# Altium footprint library Speakers_Buzzers.PcbLib: 3 footprints
Each footprint in its own frame and in the unit in brackets; x right, y up, seen from the top. Pads: shape width x height; smd on the part's side, far side on the other; paste and mask are expansions set on the pad; w line width, h text height; cw(c..) or ccw(c..) is an arc to the next point about the centre after c.
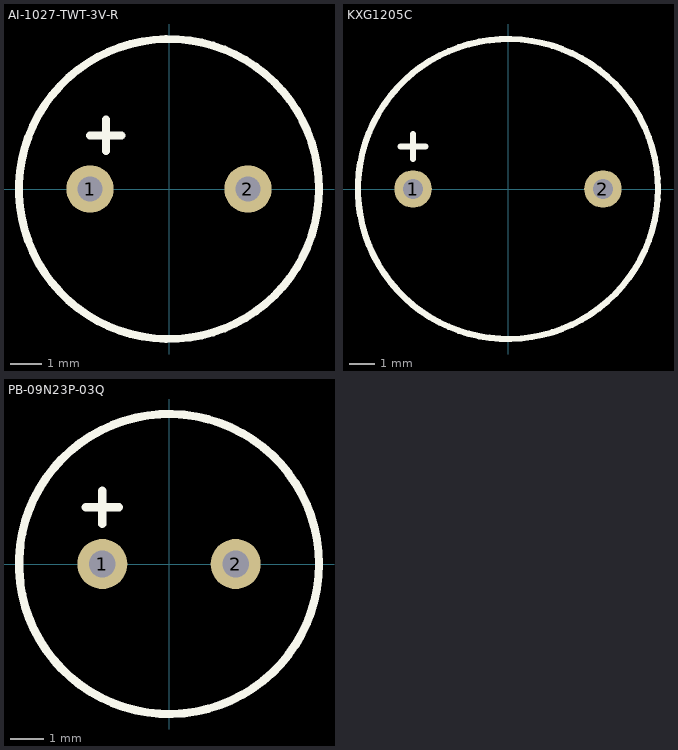
[diagram p0: the footprints below, top view; thin cyan lines are the x and y axes]

## AI-1027-TWT-3V-R [mm] "Audio Indicators & Alerts 3VDC 30MA 80DBA 2700HZ"
height 5
pads (2):
  round 1.5 hole 0.8: 1(-2.5,0) 2(2.5,0)
Top Overlay:
  circle w0.25: c0,0 r4.75
  lines w0.254: -2.5,1.7 -2,1.7 ; -2,1.2 -2,2.2 ; -1.5,1.7 -2,1.7 ; -2,1.7 -2,1.7
3D body: height 5, standoff -1, extent -4.75,-4.75 4.75,4.75

## KXG1205C [mm] "Audio Indicators & Alerts KXG1205C"
height 9.5
pads (2):
  round 1.5 hole 0.8: 1(-3.8,0) 2(3.8,0)
Top Overlay:
  circle w0.25: c0,0 r6
  lines w0.254: -4.3,1.7 -3.8,1.7 ; -3.8,1.2 -3.8,2.2 ; -3.3,1.7 -3.8,1.7 ; -3.8,1.7 -3.8,1.7
3D body: height 9.5, standoff -1, extent -6,-6 6,6

## PB-09N23P-03Q [mm] "Audio Indicators & Alerts CONSTANT, 2300HZ 1.2-2.5VDC, 9X5.5MM"
height 5.5
pads (2):
  round 1.5 hole 0.8: 1(-2,0) 2(2,0)
Top Overlay:
  circle w0.25: c0,0 r4.5
  lines w0.254: -2.5,1.7 -2,1.7 ; -2,1.2 -2,2.2 ; -1.5,1.7 -2,1.7 ; -2,1.7 -2,1.7
3D body: height 5.5, standoff -1, extent -4.5,-4.5 4.5,4.5